# EAGLE library part ALTERA_EP1C--100- (library QuantumOptics)
FPGA, Altera Cyclone, EP1Cxx100x, such as EP1C3T100C6.
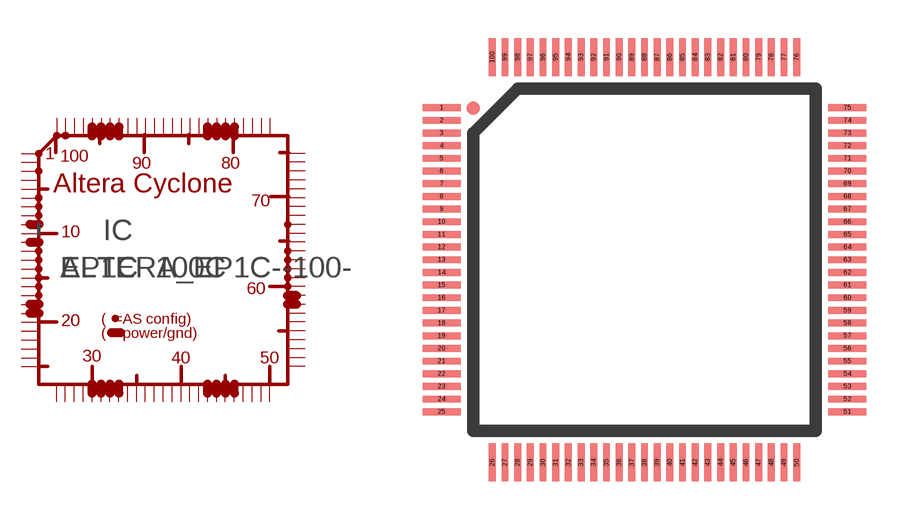
[diagram p48: symbol with the pads of TQFP-100; footprint TQFP-100]

Designator prefix IC

## ALTERA_EP1C--100--TQFP100  [TQFP-100]
1  1
2  2
3  3
4  4
5  5
6  6
7  7
8  8
9  9  in
10  10  in
11  11
12  12
13  13
14  14
15  15
16  16
17  17
18  18
19  19
20  20
21  21
22  22  in
23  23
24  24
25  25
26  26
27  27  in
28  28
29  29
30  30  in
31  31  in
32  32
33  33
34  34
35  35
36  36
37  37
38  38
39  39
40  40  in
41  41
42  42
43  43
44  44
45  45
46  46
47  47
48  48
49  49
50  50
51  51  in
52  52  in
53  53
54  54
55  55
56  56
57  57
58  58
59  59
60  60
61  61
62  62
63  63
64  64
65  65
66  66
67  67
68  68
69  69  in
70  70  in
71  71  in
72  72  in
73  73
74  74
75  75
76  76
77  77
78  78
79  79
80  80  in
81  81  in
82  82
83  83
84  84
85  85
86  86
87  87
88  88
89  89  in
90  90  in
91  91  in
92  92  in
93  93
94  94
95  95
96  96  in
97  97  in
98  98
99  99
100  100

## Footprint TQFP-100 (pad centres in mm)
TQFP-100, from Altera. 0.5mm pin pitch. NOTICE - PCB should be laid out on a 0.5mm grid, or 0.0025" if you have to then finish routing manually. Use 0.008"max traces with 0.009"min clearances.
smd 1.5 x 0.27: 1 -8.11,5.61; 2 -8.11,5.11; 3 -8.11,4.61; 4 -8.11,4.11; 5 -8.11,3.61; 6 -8.11,3.11; 7 -8.11,2.61; 8 -8.11,2.11; 9 -8.11,1.61; 10 -8.11,1.11; 11 -8.11,0.61; 12 -8.11,0.11; 13 -8.11,-0.39; 14 -8.11,-0.89; 15 -8.11,-1.39; 16 -8.11,-1.89; 17 -8.11,-2.39; 18 -8.11,-2.89; 19 -8.11,-3.39; 20 -8.11,-3.89; 21 -8.11,-4.39; 22 -8.11,-4.89; 23 -8.11,-5.39; 24 -8.11,-5.89; 25 -8.11,-6.39; 51 7.89,-6.39; 52 7.89,-5.89; 53 7.89,-5.39; 54 7.89,-4.89; 55 7.89,-4.39; 56 7.89,-3.89; 57 7.89,-3.39; 58 7.89,-2.89; 59 7.89,-2.39; 60 7.89,-1.89; 61 7.89,-1.39; 62 7.89,-0.89; 63 7.89,-0.39; 64 7.89,0.11; 65 7.89,0.61; 66 7.89,1.11; 67 7.89,1.61; 68 7.89,2.11; 69 7.89,2.61; 70 7.89,3.11; 71 7.89,3.61; 72 7.89,4.11; 73 7.89,4.61; 74 7.89,5.11; 75 7.89,5.61
smd 0.27 x 1.5: 26 -6.11,-8.39; 27 -5.61,-8.39; 28 -5.11,-8.39; 29 -4.61,-8.39; 30 -4.11,-8.39; 31 -3.61,-8.39; 32 -3.11,-8.39; 33 -2.61,-8.39; 34 -2.11,-8.39; 35 -1.61,-8.39; 36 -1.11,-8.39; 37 -0.61,-8.39; 38 -0.11,-8.39; 39 0.39,-8.39; 40 0.89,-8.39; 41 1.39,-8.39; 42 1.89,-8.39; 43 2.39,-8.39; 44 2.89,-8.39; 45 3.39,-8.39; 46 3.89,-8.39; 47 4.39,-8.39; 48 4.89,-8.39; 49 5.39,-8.39; 50 5.89,-8.39; 76 5.89,7.61; 77 5.39,7.61; 78 4.89,7.61; 79 4.39,7.61; 80 3.89,7.61; 81 3.39,7.61; 82 2.89,7.61; 83 2.39,7.61; 84 1.89,7.61; 85 1.39,7.61; 86 0.89,7.61; 87 0.39,7.61; 88 -0.11,7.61; 89 -0.61,7.61; 90 -1.11,7.61; 91 -1.61,7.61; 92 -2.11,7.61; 93 -2.61,7.61; 94 -3.11,7.61; 95 -3.61,7.61; 96 -4.11,7.61; 97 -4.61,7.61; 98 -5.11,7.61; 99 -5.61,7.61; 100 -6.11,7.61